# EAGLE library part NE555SMD (library NE555SMD)
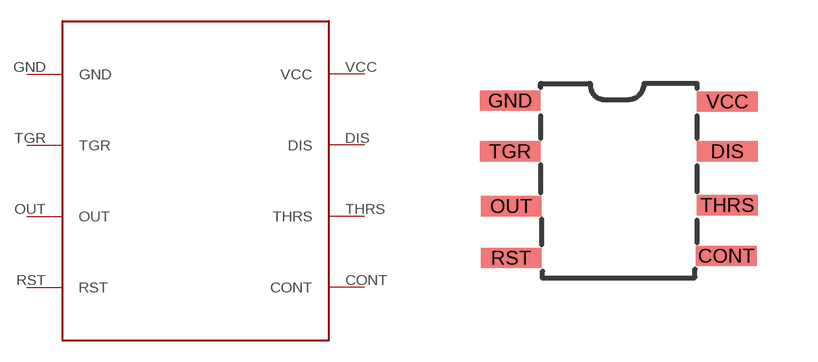
[diagram p0: symbol with the pads of NE555SMD; footprint NE555SMD]

Designator prefix -

## NE555SMD  [NE555SMD]
CONT  CONT
DIS  DIS
GND  GND
OUT  OUT
RST  RST
TGR  TGR
THRS  THRS
VCC  VCC

## Footprint NE555SMD (pad centres in mm)
smd 1.524 x 0.508: CONT 9.652,20.98; DIS 9.677,23.597; GND 4.242,24.867; OUT 4.267,22.225; RST 4.267,20.93; TGR 4.242,23.597; THRS 9.677,22.25; VCC 9.677,24.841